# Altium footprint library DIP-C  0607.PcbLib: 73 footprints (part 5 of 5)
Each footprint in its own frame and in the unit in brackets; x right, y up, seen from the top. Pads: shape width x height; smd on the part's side, far side on the other; paste and mask are expansions set on the pad; w line width, h text height; cw(c..) or ccw(c..) is an arc to the next point about the centre after c.
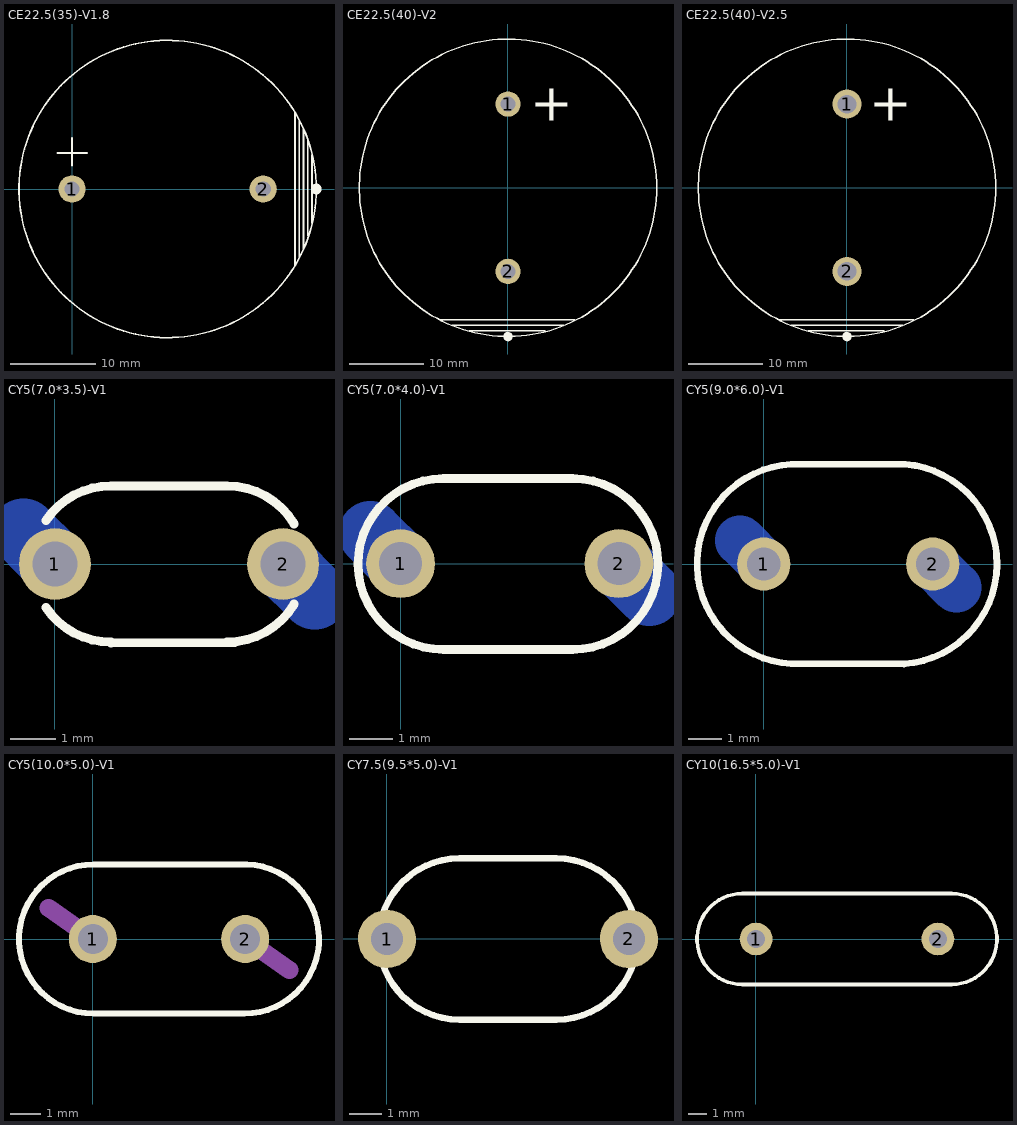
[diagram p4: the footprints below, top view; thin cyan lines are the x and y axes]

## CE22.5(35)-V1.8 [mm]
pads (2):
  round 3.2 hole 1.8: 1(0,0) 2(22.5,0)
TopOverlay:
  circle w0.2: c11.25,0 r17.5
  circle w0.61: c28.75,0 r0.323
  lines w0.2: -1.75,4.25 1.75,4.25 ; 0,2.75 0,6 ; 26.25,-9 26.25,9 ; 26.75,-8 26.75,8 ; 27.25,-7 27.25,7 ; 27.75,-5.5 27.75,5.75 ; 28.25,-4 28.25,4

## CE22.5(40)-V2 [mm] "2933046700-C206"
height 65
pads (2):
  round 3.4 hole 2: 1(0.005,11.271) 2(0.005,-11.23)
TopOverlay:
  circle w0.2: c0.005,0.02 r20.005
  circle w0.61: c0,-20 r0.323
  lines w0.2: -9.24,-17.709 9.01,-17.709 ; -7.49,-18.459 7.51,-18.459 ; -5.24,-19.209 5.01,-19.209
  text "+" at 3,9.013 h5

## CE22.5(40)-V2.5 [mm] "2933046700-C206"
pads (2):
  round 3.9 hole 2.5: 1(0.005,11.27) 2(0.005,-11.23)
TopOverlay:
  circle w0.2: c0.005,0.02 r20.005
  circle w0.61: c0,-20 r0.323
  lines w0.2: -9.24,-17.709 9.01,-17.709 ; -7.49,-18.459 7.51,-18.459 ; -5.24,-19.209 5.01,-19.209
  text "+" at 3,9.013 h5

## CY5(7.0*3.5)-V1 [mm]
height 13
pads (2):
  round 1.6 hole 1: 1(0,0) 2(5.08,0)
BottomLayer:
  lines w1.5: -0.707,0.707 0,0 ; 5.08,0 5.787,-0.707
TopOverlay:
  lines w0.2: -0.202,-0.967 ccw(c1.25,0.01) 1.25,-1.74 ; -0.202,0.967 cw(c1.25,-0.01) 1.25,1.74 ; 1.244,1.74 3.83,1.74 cw(c3.83,-0.01) 5.327,0.896 ; 1.25,-1.76 4,-1.75 ; 3.83,-1.74 ccw(c3.83,0.01) 5.327,-0.896
BottomSolder:
  lines w1: -0.707,0.707 0,0 ; 5.08,0 5.787,-0.707

## CY5(7.0*4.0)-V1 [mm]
height 14.5
pads (2):
  round 1.6 hole 1: 1(0,0) 2(5.08,0)
BottomLayer:
  lines w1.5: -0.707,0.707 0,0 ; 5.08,0 5.787,-0.707
TopOverlay:
  lines w0.2: 0.994,1.98 ccw(c1,-0.01) 1,-2 4,-2 ccw(c4,-0.01) 4.006,1.98 0.994,1.98
BottomSolder:
  lines w1: -0.707,0.707 0,0 ; 5.08,0 5.787,-0.707

## CY5(9.0*6.0)-V1 [mm]
height 16
pads (2):
  round 1.6 hole 1: 1(0,0) 2(5.08,0)
BottomLayer:
  lines w1.5: -0.707,0.707 0,0 ; 5.08,0 5.787,-0.707
TopOverlay:
  lines w0.2: 4.214,-3.003 ccw(c4,0) 4.25,3 0.83,3 ccw(c1,0) 0.83,-3 4.25,-3
BottomSolder:
  lines w1: -0.707,0.707 0,0 ; 5.08,0 5.787,-0.707

## CY5(10.0*5.0)-V1 [mm]
pads (2):
  round 1.6 hole 1: 1(0,0) 2(5.08,0)
TopOverlay:
  lines w0.2: 5.131,2.489 0.025,2.489 ccw(c0.025,0) 0.025,-2.489 5.055,-2.489 ccw(c5.055,0) 5.141,2.488
Mechanical7:
  lines w0.6: -1.474,1.032 0,0 ; 5.08,0 6.554,-1.032

## CY7.5(9.5*5.0)-V1 [mm]
pads (2):
  round 1.8 hole 1: 1(0.009,-0.015) 2(7.509,-0.015)
TopOverlay:
  lines w0.2: 2.259,-2.515 cw(c2.259,-0.015) 2.259,2.485 5.259,2.485 cw(c5.259,-0.015) 5.259,-2.515 2.259,-2.515

## CY10(16.5*5.0)-V1 [mm]
pads (2):
  round 1.8 hole 1: 1(0.012,0.009) 2(10.012,0.009)
TopOverlay:
  lines w0.2: -0.738,-2.491 cw(c-0.738,0.009) -0.738,2.509 10.762,2.509 cw(c10.762,0.009) 10.762,-2.491 -0.738,-2.491